# Altium schematic symbol library TS12A12511DGKR.Schlib: 1 symbol
Pins are listed as number, name and electrical type; pins without a type are passive.

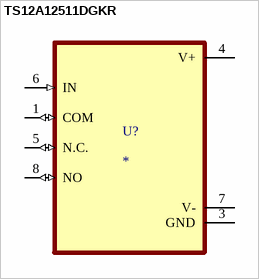
[diagram p0: symbol TS12A12511DGKR]

## TS12A12511DGKR
designator U?
pins: 1 COM (io), 3 GND (power), 4 V+ (power), 5 N.C. (io), 6 IN (in), 7 V- (power), 8 NO (io)